# Altium footprint library C_1206.PCBLIB: 1 footprints
Each footprint in its own frame and in the unit in brackets; x right, y up, seen from the top. Pads: shape width x height; smd on the part's side, far side on the other; paste and mask are expansions set on the pad; w line width, h text height; cw(c..) or ccw(c..) is an arc to the next point about the centre after c.
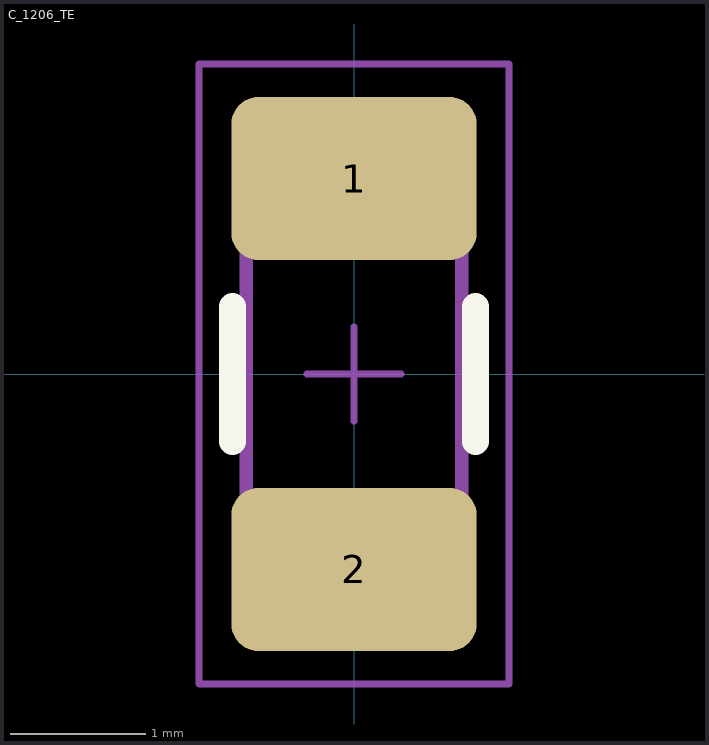
[diagram p0: the footprint, top view; thin cyan lines are the x and y axes]

## C_1206_TE [mm]
height 1.8
pads (2):
  rrect33% 1.82x1.21 smd: 1(0,1.45) 2(0,-1.45)
Top Overlay:
  lines w0.2: -0.9,-0.5 -0.9,0.5 ; 0.9,-0.5 0.9,0.5
Top Assembly:
  lines w0.1: -0.8,-1.1 0.8,-1.1 ; -0.8,1.1 0.8,1.1 ; -0.8,-1.6 -0.8,1.6 0.8,1.6 0.8,-1.6 -0.8,-1.6
Top Courtyard:
  lines w0.05: -1.15,-2.3 -1.15,2.3 1.15,2.3 1.15,-2.3 -1.15,-2.3
Top Designator:
  text ".Designator" at 0.35,-0.95 h0.7
Top Component Center:
  lines w0.05: -0.35,0 0.35,0 ; 0,-0.35 0,0.35
3D body "User Library-CAPC3216X___CAPC3216X180N.STEP": height 1.82, standoff 0, extent -0.81,-1.6 0.81,1.6